# Altium footprint library pedals-capacitors-elec.PCBLIB: 24 footprints (part 1 of 2)
Each footprint in its own frame and in the unit in brackets; x right, y up, seen from the top. Pads: shape width x height; smd on the part's side, far side on the other; paste and mask are expansions set on the pad; w line width, h text height; cw(c..) or ccw(c..) is an arc to the next point about the centre after c.
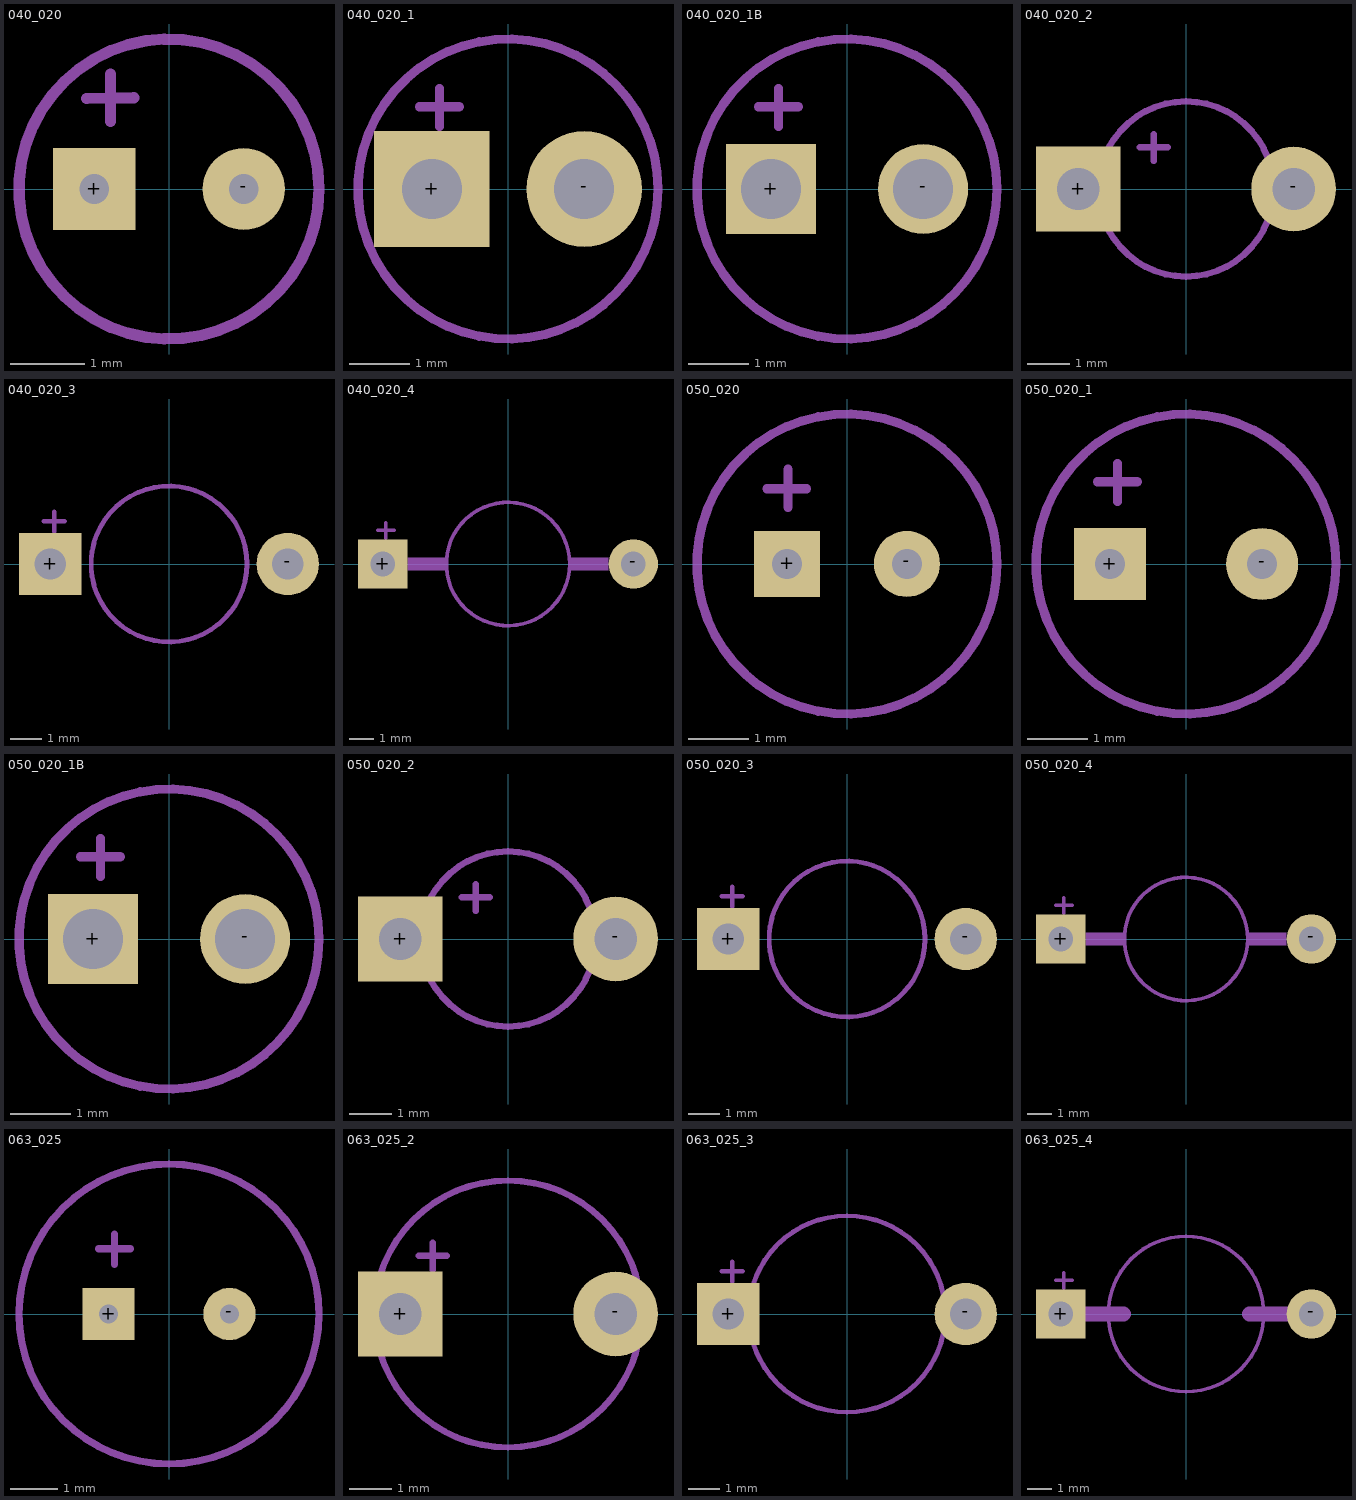
[diagram p0: the footprints below, top view; thin cyan lines are the x and y axes]

## 040_020 [mm]
pads (2):
  rect 1.1x1.1 hole 0.4: +(-1.001,0)
  round 1.1 hole 0.4: -(1.001,0)
Mechanical 2:
  circle w0.152: c0,0 r2.008
  lines w0.152: -1.101,1.212 -0.474,1.219 ; -0.784,0.904 -0.784,1.539

## 040_020_1 [mil]
pads (2):
  rect 76x76 hole 39.37: +(-50,0)
  round 76 hole 39.37: -(50,0)
Mechanical 2:
  circle w6: c0,0 r98.43
  lines w6: -58,54 -32,54 ; -45,41 -45,66

## 040_020_1B [mm]
pads (2):
  rect 1.5x1.5 hole 1: +(-1.27,0)
  round 1.5 hole 1: -(1.27,0)
Mechanical 2:
  circle w0.152: c0,0 r2.5
  lines w0.152: -1.473,1.372 -0.813,1.372 ; -1.143,1.041 -1.143,1.676

## 040_020_2 [mm]
pads (2):
  rect 2x2 hole 1: +(-2.54,0)
  round 2 hole 1: -(2.54,0)
Mechanical 2:
  circle w0.152: c0,0 r2.067
  lines w0.152: -1.092,0.991 -0.432,0.991 ; -0.762,0.66 -0.762,1.295

## 040_020_3 [mm]
pads (2):
  rect 2x2 hole 1: +(-3.81,0)
  round 2 hole 1: -(3.81,0)
Mechanical 2:
  circle w0.152: c0,0 r2.5
  lines w0.152: -4.013,1.372 -3.353,1.372 ; -3.683,1.041 -3.683,1.676

## 040_020_4 [mm]
pads (2):
  rect 2x2 hole 1: +(-5.08,0)
  round 2 hole 1: -(5.08,0)
Mechanical 2:
  circle w0.152: c0,0 r2.5
  rectangle: -4.064,-0.254 -2.54,0.254
  rectangle: 2.54,-0.254 4.064,0.254
  lines w0.152: -5.283,1.372 -4.623,1.372 ; -4.953,1.041 -4.953,1.676

## 050_020 [mm]
pads (2):
  rect 1.1x1.1 hole 0.5: +(-0.998,0.001)
  round 1.1 hole 0.5: -(0.998,0.001)
Mechanical 2:
  circle w0.152: c0,0 r2.5
  lines w0.152: -1.335,1.255 -0.675,1.255 ; -0.984,0.945 -0.984,1.58

## 050_020_1 [mm]
pads (2):
  rect 1.2x1.2 hole 0.5: +(-1.27,0)
  round 1.2 hole 0.5: -(1.27,0)
Mechanical 2:
  circle w0.152: c0,0 r2.5
  lines w0.152: -1.473,1.372 -0.813,1.372 ; -1.143,1.041 -1.143,1.676

## 050_020_1B [mm]
pads (2):
  rect 1.5x1.5 hole 1: +(-1.27,0)
  round 1.5 hole 1: -(1.27,0)
Mechanical 2:
  circle w0.152: c0,0 r2.5
  lines w0.152: -1.473,1.372 -0.813,1.372 ; -1.143,1.041 -1.143,1.676

## 050_020_2 [mm]
pads (2):
  rect 2x2 hole 1: +(-2.54,0)
  round 2 hole 1: -(2.54,0)
Mechanical 2:
  circle w0.152: c0,0 r2.067
  lines w0.152: -1.092,0.991 -0.432,0.991 ; -0.762,0.66 -0.762,1.295

## 050_020_3 [mm]
pads (2):
  rect 2x2 hole 1: +(-3.81,0)
  round 2 hole 1: -(3.81,0)
Mechanical 2:
  circle w0.152: c0,0 r2.5
  lines w0.152: -4.013,1.372 -3.353,1.372 ; -3.683,1.041 -3.683,1.676

## 050_020_4 [mm]
pads (2):
  rect 2x2 hole 1: +(-5.08,0)
  round 2 hole 1: -(5.08,0)
Mechanical 2:
  circle w0.152: c0,0 r2.5
  rectangle: -4.064,-0.254 -2.54,0.254
  rectangle: 2.54,-0.254 4.064,0.254
  lines w0.152: -5.283,1.372 -4.623,1.372 ; -4.953,1.041 -4.953,1.676

## 063_025 [mm]
pads (2):
  rect 1.1x1.1 hole 0.4: +(-1.27,0)
  round 1.1 hole 0.4: -(1.27,0)
Mechanical 2:
  circle w0.152: c0,0 r3.15
  lines w0.152: -1.473,1.372 -0.813,1.372 ; -1.143,1.041 -1.143,1.676

## 063_025_2 [mm]
pads (2):
  rect 2x2 hole 1: +(-2.54,0)
  round 2 hole 1: -(2.54,0)
Mechanical 2:
  circle w0.152: c0,0 r3.15
  lines w0.152: -2.108,1.372 -1.448,1.372 ; -1.778,1.041 -1.778,1.676

## 063_025_3 [mm]
pads (2):
  rect 2x2 hole 1: +(-3.81,0)
  round 2 hole 1: -(3.81,0)
Mechanical 2:
  circle w0.152: c0,0 r3.15
  lines w0.152: -4.013,1.372 -3.353,1.372 ; -3.683,1.041 -3.683,1.676

## 063_025_4 [mm]
pads (2):
  rect 2x2 hole 1: +(-5.08,0)
  round 2 hole 1: -(5.08,0)
Mechanical 2:
  circle w0.152: c0,0 r3.15
  lines w0.152: -5.283,1.372 -4.623,1.372 ; -4.953,1.041 -4.953,1.676
Mechanical 18:
  lines w0.61: -5.105,0 -2.54,0 ; 2.565,0 5.08,0